# EAGLE library part LM4875 (library gba-zero-parts)
LM4875 Boomer Audio Power Amplifier 750mW - with DC Volume Control and Headphone Switch
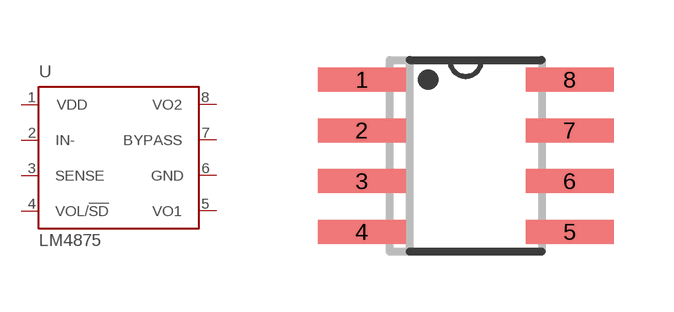
[diagram p7: symbol with the pads of SO-8; footprint SO-8]

Designator prefix U

## LM4875  [SO-8]
1  VDD  pwr
2  IN-  in
3  SENSE  in
4  VOL/!SD  in
5  VO1  out
6  GND  pwr
7  BYPASS  pas
8  VO2  out

## Footprint SO-8 (pad centres in mm)
smd 2.2 x 0.6: 1 -2.6,1.905; 2 -2.6,0.635; 3 -2.6,-0.635; 4 -2.6,-1.905; 5 2.6,-1.905; 6 2.6,-0.635; 7 2.6,0.635; 8 2.6,1.905